# Altium footprint library PCB - Capacitors - ELCO - Nichicon UKA1E472MHD.PcbLib: 1 footprints
Each footprint in its own frame and in the unit in brackets; x right, y up, seen from the top. Pads: shape width x height; smd on the part's side, far side on the other; paste and mask are expansions set on the pad; w line width, h text height; cw(c..) or ccw(c..) is an arc to the next point about the centre after c.
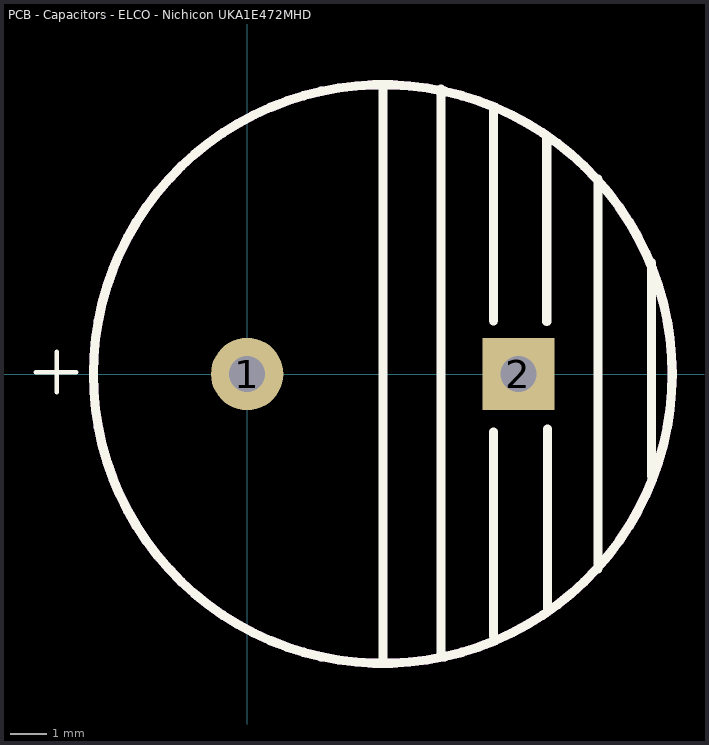
[diagram p0: the footprint, top view; thin cyan lines are the x and y axes]

## PCB - Capacitors - ELCO - Nichicon UKA1E472MHD [mm]
pads (2):
  round 2 hole 1: 1(0,0)
  rect 2x2 hole 1: 2(7.5,0)
Top Overlay:
  circle w0.254: c3.75,0 r8
  lines w0.125: -5.842,0.051 -4.724,0.051 ; -5.258,-0.508 -5.258,0.61 -5.258,0
  lines w0.254: 3.759,-7.95 3.759,7.976 ; 5.359,-7.772 5.359,7.874 ; 6.807,-7.239 6.807,-1.6 ; 6.807,1.473 6.807,7.366 ; 8.28,1.448 8.28,6.528 ; 8.306,-6.477 8.306,-1.524 ; 9.703,-5.385 9.703,5.385 ; 11.176,-2.819 11.176,3.073
Mechanical 1:
  circle w0.254: c3.75,0 r8
3D body: height 35.5, standoff 0, extent -4.166,-7.984 11.771,7.984